# Altium schematic symbol library TRANSFORMERS.SchLib: 1 symbol
Pins are listed as number, name and electrical type; pins without a type are passive.

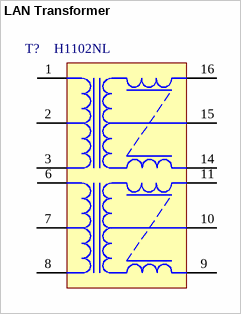
[diagram p0: symbol LAN Transformer]

## LAN Transformer
designator T?, comment H1102NL
Inductor with iron core; Manufacturer: Pulse Electronics; Inductance: 350uH; BOMString: H1102NL; HelpURL: https://static6.arrow.com/aropdfconversion/b7f97da4515147bde296f91712dedf627d1ced99/46889686653047240h1102nl.pdf; Supplier: https://www.chipdip.ru/product1/8001983131; Name: H1102NL
footprint H1102NL (SOIC, 16-Leads, Body 12,70x7,10mm, Pitch 1,27mm, IPC Medium Density)
pins: 1 "Test", 2 "Test", 3 "Test", 6 "Test", 7 "Test", 8 "Test", 9 "Test", 10 "Test", 11 "Test", 14 "Test", 15 "Test", 16 "Test"